# EAGLE library part AD7992 (library analogdevices-ADC)
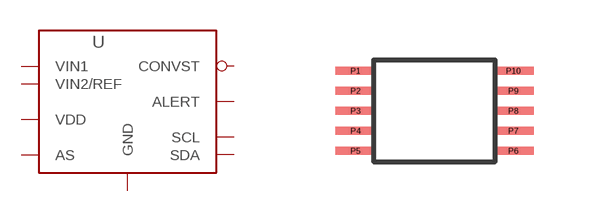
[diagram p0: symbol with the pads of MSOP; footprint MSOP]

Designator prefix -

## AD7992  [MSOP]
P1  CONVST
P2  GND1
P3  VDD
P4  VIN2/REF
P5  VIN1
P6  AS
P7  GND
P8  ALERT
P9  SDA
P10  SCL

## Footprint MSOP (pad centres in mm)
smd 1.016 x 0.203: P1 -1.974,1.127; P2 -1.974,0.627; P3 -1.974,0.127; P4 -1.974,-0.373; P5 -1.974,-0.873; P6 1.974,-0.873; P7 1.974,-0.373; P8 1.974,0.127; P9 1.974,0.627; P10 1.974,1.127